# EAGLE library part MCP23S08 (library microchip)
SPI 8-Bit I/O Expander
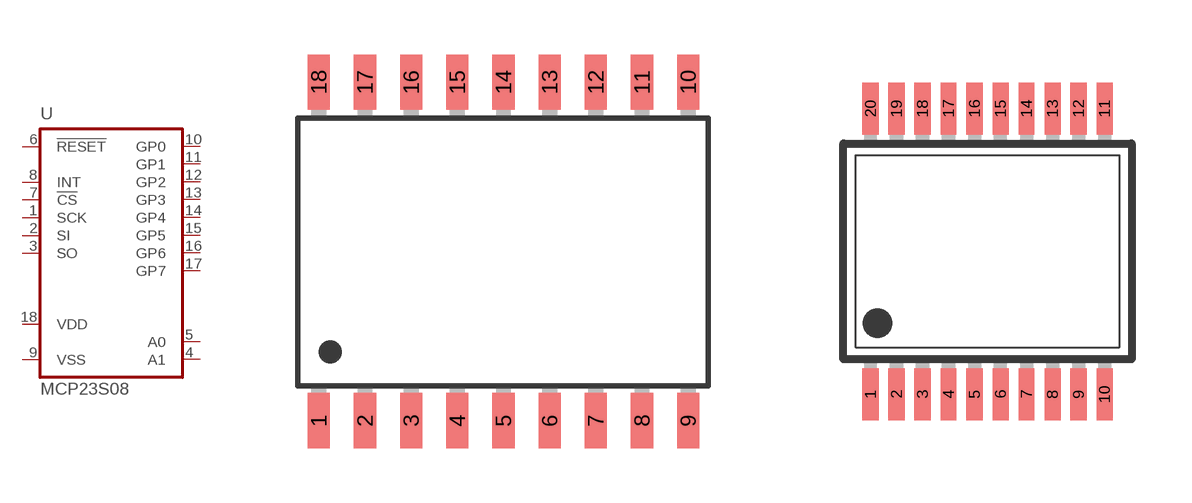
[diagram p146: symbol with the pads of SO-18W; footprints SO-18W, SSOP20W]

Designator prefix U

## MCP23S08SO  [SO-18W]
1  SCK  in
2  SI  in
3  SO
4  A1  in
5  A0  in
6  !RESET  in
7  !CS  in
8  INT  out
9  VSS  pwr
10  GP0
11  GP1
12  GP2
13  GP3
14  GP4
15  GP5
16  GP6
17  GP7
18  VDD  pwr

## MCP23S08SS  [SSOP20W]
1  SCK  in
2  SI  in
3  SO
4  A1  in
5  A0  in
6  !RESET  in
7  !CS  in
8  INT  out
9  VSS  pwr
12  GP0
13  GP1
14  GP2
15  GP3
16  GP4
17  GP5
18  GP6
19  GP7
20  VDD  pwr

## Footprint SO-18W (pad centres in mm)
Small Outline Wide Plastic Gull Wing 300-mil body, package type SO
smd 0.61 x 1.524: 1 -5.08,-4.661; 2 -3.81,-4.661; 3 -2.54,-4.661; 4 -1.27,-4.661; 5 0,-4.661; 6 1.27,-4.661; 7 2.54,-4.661; 8 3.81,-4.661; 9 5.08,-4.661; 10 5.08,4.661; 11 3.81,4.661; 12 2.54,4.661; 13 1.27,4.661; 14 0,4.661; 15 -1.27,4.661; 16 -2.54,4.661; 17 -3.81,4.661; 18 -5.08,4.661

## Footprint SSOP20W (pad centres in mm)
Small Shrink Outline Package 5.3 mm body
smd 0.4 x 1.3: 1 -2.925,-3.575; 2 -2.275,-3.575; 3 -1.625,-3.575; 4 -0.975,-3.575; 5 -0.325,-3.575; 6 0.325,-3.575; 7 0.975,-3.575; 8 1.625,-3.575; 9 2.275,-3.575; 10 2.925,-3.575; 11 2.925,3.575; 12 2.275,3.575; 13 1.625,3.575; 14 0.975,3.575; 15 0.325,3.575; 16 -0.325,3.575; 17 -0.975,3.575; 18 -1.625,3.575; 19 -2.275,3.575; 20 -2.925,3.575